# Altium schematic symbol library WS-ROTV THT Rotary Switch 10x10 mm.SchLib: 16 symbols
Pins are listed as number, name and electrical type; pins without a type are passive.

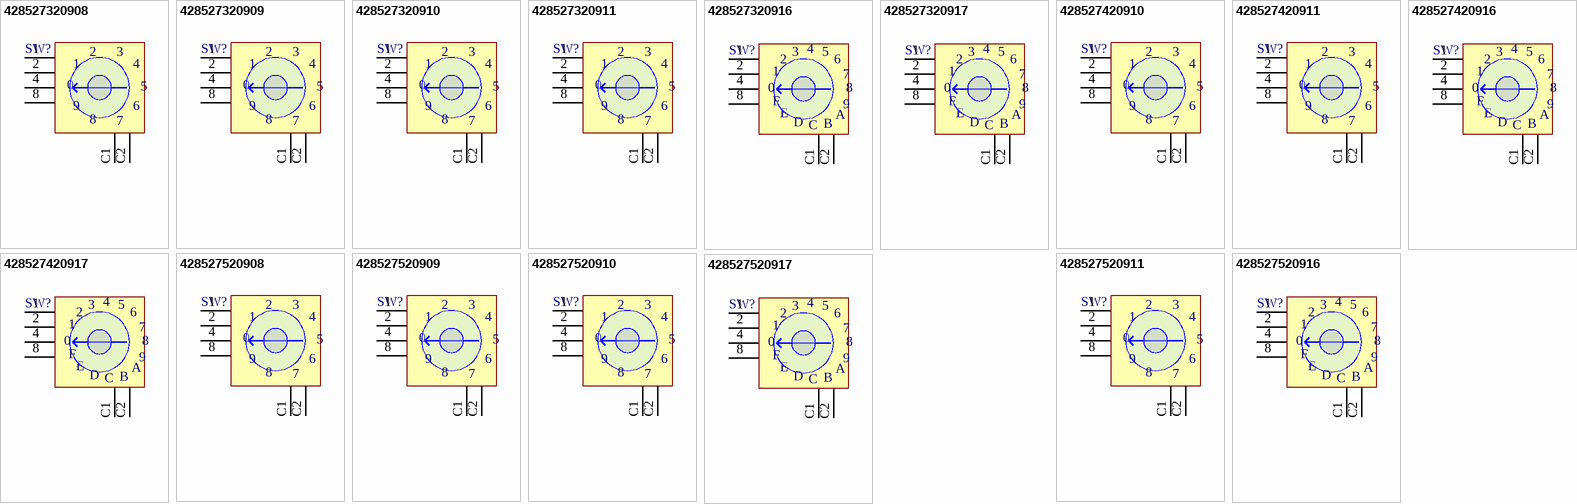
[diagram p0: symbols 428527320908 to 428527520917]

## 428527320908
designator SW?
WS-ROTV THT Rotary Switch 10x10 mm; PartNumber: 428527320908; NoPins: 06; PackageReference: 428527320908; ComponentLink1Description: Manufacturer URL; ComponentLink1URL: http://www.we-online.com; ComponentLink2Description: Datasheet; ComponentLink2URL: http://katalog.we-online.de/em/datasheet/428527320908.pdf
footprint 428527320908 (8 position, 2.54mm Pitch, Horizontal type, THT, Round Arrow type, dark grey actuator, real code, Tube)
pins: 1, 2, 4, 8, C1, C2
text: 3; 0; 5; 9; 6; 7

## 428527320909
designator SW?
WS-ROTV THT Rotary Switch 10x10 mm; PartNumber: 428527320909; NoPins: 06; PackageReference: 428527320909; ComponentLink1Description: Manufacturer URL; ComponentLink1URL: http://www.we-online.com; ComponentLink2Description: Datasheet; ComponentLink2URL: http://katalog.we-online.de/em/datasheet/428527320909.pdf
footprint 428527320909 (8 position, 2.54mm Pitch, Horizontal type, THT, Round Arrow type, ivory actuator, complement code, Tube)
pins: 1, 2, 4, 8, C1, C2
text: 3; 0; 5; 9; 6; 7

## 428527320910
designator SW?
WS-ROTV THT Rotary Switch 10x10 mm; PartNumber: 428527320910; NoPins: 06; PackageReference: 428527320910; ComponentLink1Description: Manufacturer URL; ComponentLink1URL: http://www.we-online.com; ComponentLink2Description: Datasheet; ComponentLink2URL: http://katalog.we-online.de/em/datasheet/428527320910.pdf
footprint 428527320910 (10 position, 2.54mm Pitch, Horizontal type, THT, Round Arrow type, dark grey actuator, real code, Tube)
pins: 1, 2, 4, 8, C1, C2
text: 3; 0; 5; 9; 6; 7

## 428527320911
designator SW?
WS-ROTV THT Rotary Switch 10x10 mm; PartNumber: 428527320911; NoPins: 06; PackageReference: 428527320911; ComponentLink1Description: Manufacturer URL; ComponentLink1URL: http://www.we-online.com; ComponentLink2Description: Datasheet; ComponentLink2URL: http://katalog.we-online.de/em/datasheet/428527320911.pdf
footprint 428527320911 (10 position, 2.54mm Pitch, Horizontal type, THT, Round Arrow type, ivory actuator, complement code, Tube)
pins: 1, 2, 4, 8, C1, C2
text: 3; 0; 5; 9; 6; 7

## 428527320916
designator SW?
WS-ROTV THT Rotary Switch 10x10 mm; PartNumber: 428527320916; NoPins: 06; PackageReference: 428527320916; ComponentLink1Description: Manufacturer URL; ComponentLink1URL: http://www.we-online.com; ComponentLink2Description: Datasheet; ComponentLink2URL: http://katalog.we-online.de/em/datasheet/428527320916.pdf
footprint 428527320916 (16 position, 2.54mm Pitch, Horizontal type, THT, Round Arrow type, dark grey actuator, real code, Tube)
pins: 1, 2, 4, 8, C1, C2
text: 3; 5; 6; 7; 0; F; 9; E; A; D; C; B

## 428527320917
designator SW?
WS-ROTV THT Rotary Switch 10x10 mm; PartNumber: 428527320917; NoPins: 06; PackageReference: 428527320917; ComponentLink1Description: Manufacturer URL; ComponentLink1URL: http://www.we-online.com; ComponentLink2Description: Datasheet; ComponentLink2URL: http://katalog.we-online.de/em/datasheet/428527320917.pdf
footprint 428527320917 (16 position, 2.54mm Pitch, Horizontal type, THT, Round Arrow type, ivory actuator, complement code, Tube)
pins: 1, 2, 4, 8, C1, C2
text: 3; 5; 6; 7; 0; F; 9; E; A; D; C; B

## 428527420910
designator SW?
WS-ROTV THT Rotary Switch 10x10 mm; PartNumber: 428527420910; NoPins: 06; PackageReference: 428527420910; ComponentLink1Description: Manufacturer URL; ComponentLink1URL: http://www.we-online.com; ComponentLink2Description: Datasheet; ComponentLink2URL: http://katalog.we-online.de/em/datasheet/428527420910.pdf
footprint 428527420910 (10 position, 2.54mm Pitch, Horizontal type, THT, Round Shaft type, dark grey actuator, real code, Tube)
pins: 1, 2, 4, 8, C1, C2
text: 3; 0; 5; 9; 6; 7

## 428527420911
designator SW?
WS-ROTV THT Rotary Switch 10x10 mm; PartNumber: 428527420911; NoPins: 06; PackageReference: 428527420911; ComponentLink1Description: Manufacturer URL; ComponentLink1URL: http://www.we-online.com; ComponentLink2Description: Datasheet; ComponentLink2URL: http://katalog.we-online.de/em/datasheet/428527420911.pdf
footprint 428527420911 (10 position, 2.54mm Pitch, Horizontal type, THT, Round Shaft type, ivory actuator, complement code, Tube)
pins: 1, 2, 4, 8, C1, C2
text: 3; 0; 5; 9; 6; 7

## 428527420916
designator SW?
WS-ROTV THT Rotary Switch 10x10 mm; PartNumber: 428527420916; NoPins: 06; PackageReference: 428527420916; ComponentLink1Description: Manufacturer URL; ComponentLink1URL: http://www.we-online.com; ComponentLink2Description: Datasheet; ComponentLink2URL: http://katalog.we-online.de/em/datasheet/428527420916.pdf
footprint 428527420916 (16 position, 2.54mm Pitch, Horizontal type, THT, Round Shaft type, dark grey actuator, real code, Tube)
pins: 1, 2, 4, 8, C1, C2
text: 3; 5; 6; 7; 0; F; 9; E; A; D; C; B

## 428527420917
designator SW?
WS-ROTV THT Rotary Switch 10x10 mm; PartNumber: 428527420917; NoPins: 06; PackageReference: 428527420917; ComponentLink1Description: Manufacturer URL; ComponentLink1URL: http://www.we-online.com; ComponentLink2Description: Datasheet; ComponentLink2URL: http://katalog.we-online.de/em/datasheet/428527420917.pdf
footprint 428527420917 (16 position, 2.54mm Pitch, Horizontal type, THT, Round Shaft type, ivory actuator, complement code, Tube)
pins: 1, 2, 4, 8, C1, C2
text: 3; 5; 6; 7; 0; F; 9; E; A; D; C; B

## 428527520908
designator SW?
WS-ROTV THT Rotary Switch 10x10 mm; PartNumber: 428527520908; NoPins: 06; PackageReference: 428527520908; ComponentLink1Description: Manufacturer URL; ComponentLink1URL: http://www.we-online.com; ComponentLink2Description: Datasheet; ComponentLink2URL: http://katalog.we-online.de/em/datasheet/428527520908.pdf
footprint 428527520908 (8 position, 2.54mm Pitch, Horizontal type, THT, Round Cross type, dark grey actuator, real code, Tube)
pins: 1, 2, 4, 8, C1, C2
text: 3; 0; 5; 9; 6; 7

## 428527520909
designator SW?
WS-ROTV THT Rotary Switch 10x10 mm; PartNumber: 428527520909; NoPins: 06; PackageReference: 428527520909; ComponentLink1Description: Manufacturer URL; ComponentLink1URL: http://www.we-online.com; ComponentLink2Description: Datasheet; ComponentLink2URL: http://katalog.we-online.de/em/datasheet/428527520909.pdf
footprint 428527520909 (8 position, 2.54mm Pitch, Horizontal type, THT, Round Cross type, ivory actuator, complement code, Tube)
pins: 1, 2, 4, 8, C1, C2
text: 3; 0; 5; 9; 6; 7

## 428527520910
designator SW?
WS-ROTV THT Rotary Switch 10x10 mm; PartNumber: 428527520910; NoPins: 06; PackageReference: 428527520910; ComponentLink1Description: Manufacturer URL; ComponentLink1URL: http://www.we-online.com; ComponentLink2Description: Datasheet; ComponentLink2URL: http://katalog.we-online.de/em/datasheet/428527520910.pdf
footprint 428527520910 (10 position, 2.54mm Pitch, Horizontal type, THT, Round Cross type, dark grey actuator, real code, Tube)
pins: 1, 2, 4, 8, C1, C2
text: 3; 0; 5; 9; 6; 7

## 428527520911
designator SW?
WS-ROTV THT Rotary Switch 10x10 mm; PartNumber: 428527520911; NoPins: 06; PackageReference: 428527520911; ComponentLink1Description: Manufacturer URL; ComponentLink1URL: http://www.we-online.com; ComponentLink2Description: Datasheet; ComponentLink2URL: http://katalog.we-online.de/em/datasheet/428527520911.pdf
footprint 428527520911 (10 position, 2.54mm Pitch, Horizontal type, THT, Round Cross type, ivory actuator, complement code, Tube)
pins: 1, 2, 4, 8, C1, C2
text: 3; 0; 5; 9; 6; 7

## 428527520916
designator SW?
WS-ROTV THT Rotary Switch 10x10 mm; PartNumber: 428527520916; NoPins: 06; PackageReference: 428527520916; ComponentLink1Description: Manufacturer URL; ComponentLink1URL: http://www.we-online.com; ComponentLink2Description: Datasheet; ComponentLink2URL: http://katalog.we-online.de/em/datasheet/428527520916.pdf
footprint 428527520916 (16 position, 2.54mm Pitch, Horizontal type, THT, Round Cross  type, dark grey actuator, real code, Tube)
pins: 1, 2, 4, 8, C1, C2
text: 3; 5; 6; 7; 0; F; 9; E; A; D; C; B

## 428527520917
designator SW?
WS-ROTV THT Rotary Switch 10x10 mm; PartNumber: 428527520917; NoPins: 06; PackageReference: 428527520917; ComponentLink1Description: Manufacturer URL; ComponentLink1URL: http://www.we-online.com; ComponentLink2Description: Datasheet; ComponentLink2URL: http://katalog.we-online.de/em/datasheet/428527520917.pdf
footprint 428527520917 (16 position, 2.54mm Pitch, Horizontal type, THT, Round Cross type, ivory actuator, complement code, Tube)
pins: 1, 2, 4, 8, C1, C2
text: 3; 5; 6; 7; 0; F; 9; E; A; D; C; B